# Altium footprint library GND_Headers.PcbLib: 1 footprints
Each footprint in its own frame and in the unit in brackets; x right, y up, seen from the top. Pads: shape width x height; smd on the part's side, far side on the other; paste and mask are expansions set on the pad; w line width, h text height; cw(c..) or ccw(c..) is an arc to the next point about the centre after c.
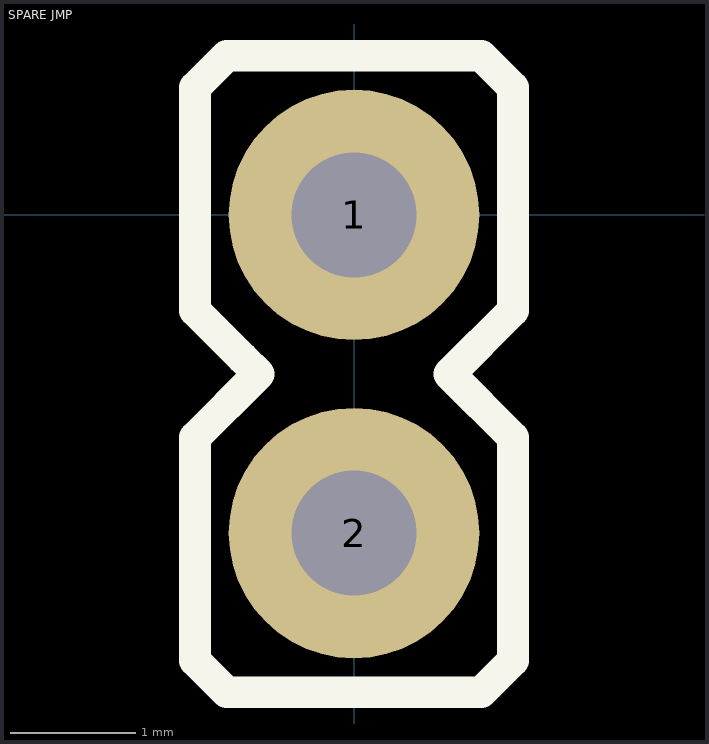
[diagram p0: the footprint, top view; thin cyan lines are the x and y axes]

## SPARE JMP [mm]
pads (2):
  round 2 hole 1: 1(0,0) 2(0,-2.54)
Top Overlay:
  lines w0.254: -1.27,-3.556 -1.016,-3.81 1.016,-3.81 1.27,-3.556 1.27,-1.778 0.762,-1.27 1.27,-0.762 1.27,1.016 1.016,1.27 -1.016,1.27 -1.27,1.016 -1.27,-0.762 -1.143,-0.889 -0.889,-1.143 -0.762,-1.27 -1.27,-1.778 -1.27,-3.556